# Altium footprint library DPS368.PcbLib: 1 footprints
Each footprint in its own frame and in the unit in brackets; x right, y up, seen from the top. Pads: shape width x height; smd on the part's side, far side on the other; paste and mask are expansions set on the pad; w line width, h text height; cw(c..) or ccw(c..) is an arc to the next point about the centre after c.
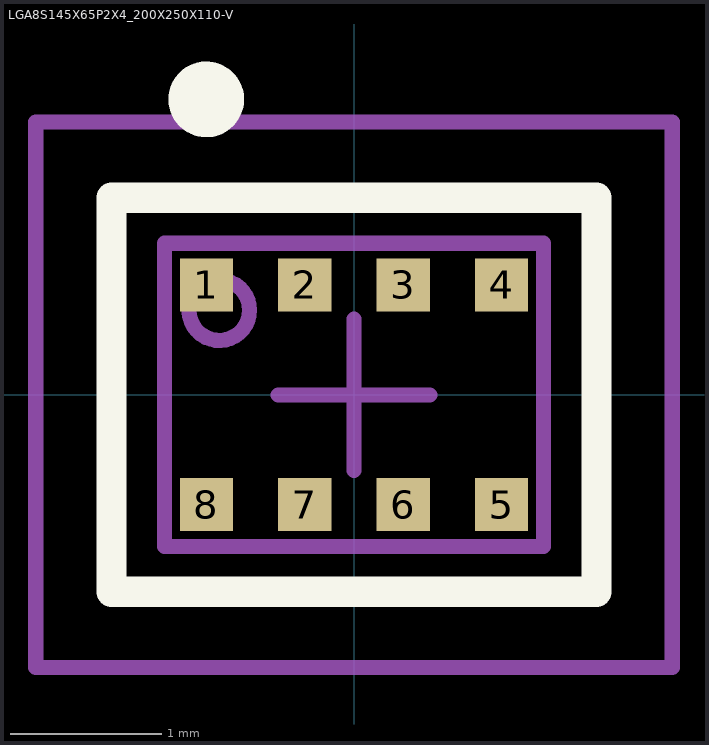
[diagram p0: the footprint, top view; thin cyan lines are the x and y axes]

## LGA8S145X65P2X4_200X250X110-V [mm] "LGA,1.45mm  col. pitch X 0.65mm row pitch,rect.;8 pin,2 columns X 4 rows,2.00mm X 2.50mm X 1.10mm H"
height 1.1
pads (8):
  rect 0.35x0.35 smd paste-0.175 mask+0: 1(-0.975,0.725) 2(-0.325,0.725) 3(0.325,0.725) 4(0.975,0.725) 5(0.975,-0.725) 6(0.325,-0.725) 7(-0.325,-0.725) 8(-0.975,-0.725)
Top Overlay:
  circle w0.25: c-0.975,1.95 r0.125
  lines w0.2: -1.6,-1.3 -1.6,1.3 1.6,1.3 1.6,-1.3 -1.6,-1.3
Top Paste:
  circle w0.175: c0.975,0.725 r0.088
  circle w0.175: c-0.975,0.725 r0.088
  circle w0.175: c-0.325,0.725 r0.088
  circle w0.175: c0.325,0.725 r0.088
  circle w0.175: c-0.325,-0.725 r0.088
  circle w0.175: c0.325,-0.725 r0.088
  circle w0.175: c0.975,-0.725 r0.088
  circle w0.175: c-0.975,-0.725 r0.088
Mechanical 3:
  text ".DESIGNATOR" at 0,0 h1.2
Mechanical 13:
  circle w0.1: c-0.889,0.559 r0.2
  lines w0.1: -1.25,-1 1.25,-1 1.25,1 -1.25,1 -1.25,-1
Mechanical 15:
  lines w0.1: -0.5,0 0.5,0 ; 0,-0.5 0,0.5 ; -2.1,-1.8 2.1,-1.8 2.1,1.8 -2.1,1.8 -2.1,-1.8
3D body "PG-VLGA-8-2_Z8B00187549_V01_3D.step": height 1.11, standoff 0, extent -1.25,-1 1.25,1